# Altium footprint library JDLib.PcbLib: 23 footprints (part 1 of 2)
Each footprint in its own frame and in the unit in brackets; x right, y up, seen from the top. Pads: shape width x height; smd on the part's side, far side on the other; paste and mask are expansions set on the pad; w line width, h text height; cw(c..) or ccw(c..) is an arc to the next point about the centre after c.
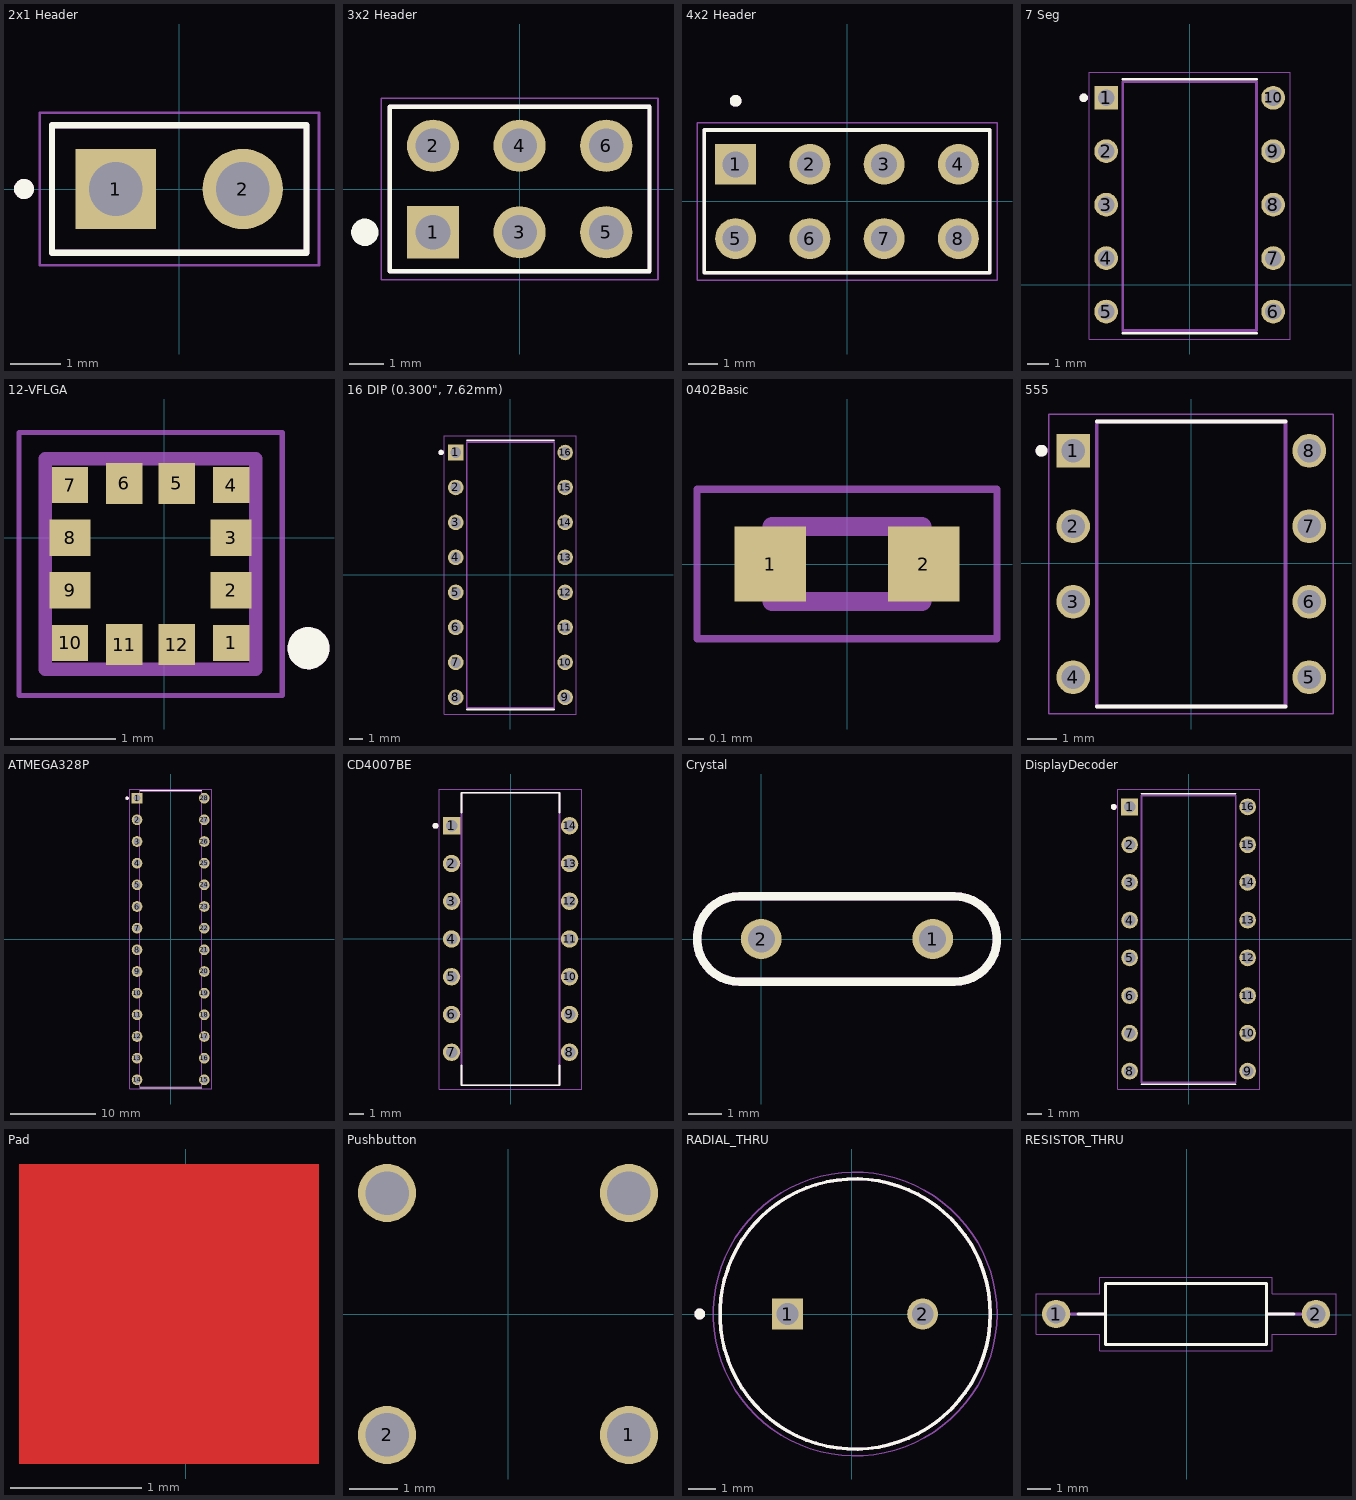
[diagram p0: the footprints below, top view; thin cyan lines are the x and y axes]

## 2x1 Header [mm]
pads (2):
  rect 1.605x1.605 / inner round 1.605 / far side rect 1.605x1.605 hole 1.07: 1(-1.27,0)
  round 1.605 hole 1.07: 2(1.27,0)
Top Overlay:
  circle w0.2: c-3.1,0 r0.1
  lines w0.127: -2.54,-1.27 -2.54,1.27 2.54,1.27 2.54,-1.27 -2.54,-1.27
Mechanical 13:
  circle w0.2: c-3.1,0 r0.1
  lines w0.127: -2.54,-1.27 -2.54,1.27 2.54,1.27 2.54,-1.27 -2.54,-1.27
Mechanical 15:
  lines w0.05: -2.79,-1.52 -2.79,1.52 2.79,1.52 2.79,-1.52 -2.79,-1.52

## 3x2 Header [mm]
pads (6):
  rect 1.53x1.53 hole 1.02: 1(-2.54,-1.27)
  round 1.53 hole 1.02: 2(-2.54,1.27) 3(0,-1.27) 4(0,1.27) 5(2.54,-1.27) 6(2.54,1.27)
Top Overlay:
  circle w0.4: c-4.54,-1.27 r0.2
  lines w0.127: -3.81,-2.415 3.81,-2.415 3.81,2.415 -3.81,2.415 -3.81,-2.415
Mechanical 13:
  circle w0.4: c-2.54,-1.27 r0.2
  lines w0.127: -3.81,-2.415 3.81,-2.415 3.81,2.415 -3.81,2.415 -3.81,-2.415
Mechanical 15:
  lines w0.05: -4.06,-2.665 -4.06,2.665 4.06,2.665 4.06,-2.665 -4.06,-2.665

## 4x2 Header [mm]
pads (8):
  rect 1.398x1.398 hole 0.89: 1(-3.81,1.27)
  round 1.398 hole 0.89: 2(-1.27,1.27) 3(1.27,1.27) 4(3.81,1.27) 5(-3.81,-1.27) 6(-1.27,-1.27) 7(1.27,-1.27) 8(3.81,-1.27)
Top Overlay:
  circle w0.2: c-3.81,3.44 r0.1
  lines w0.127: -4.88,-2.44 -4.88,2.44 4.88,2.44 4.88,-2.44 -4.88,-2.44
Mechanical 13:
  circle w0.2: c-3.81,3.44 r0.1
  lines w0.127: -4.88,-2.44 -4.88,2.44 4.88,2.44 4.88,-2.44 -4.88,-2.44
Mechanical 15:
  lines w0.05: -5.13,-2.69 -5.13,2.69 5.13,2.69 5.13,-2.69 -5.13,-2.69

## 7 Seg [mm]
pads (10):
  rect 1.13x1.13 hole 0.78: 1(-3.97,8.89)
  round 1.13 hole 0.78: 2(-3.97,6.35) 3(-3.97,3.81) 4(-3.97,1.27) 5(-3.97,-1.27) 6(3.97,-1.27) 7(3.97,1.27) 8(3.97,3.81) 9(3.97,6.35) 10(3.97,8.89)
Top Overlay:
  circle w0.2: c-5.035,8.89 r0.1
  lines w0.127: -3.175,-2.3 3.175,-2.3 ; -3.175,9.775 3.175,9.775
Mechanical 13:
  circle w0.2: c-5.035,8.89 r0.1
  lines w0.127: -3.175,-2.175 -3.175,9.653 3.175,9.653 3.175,-2.175 -3.175,-2.175
Mechanical 15:
  lines w0.05: -4.785,-2.575 -4.785,10.095 4.785,10.095 4.785,-2.575 -4.785,-2.575

## 12-VFLGA [mm]
pads (12):
  rect 0.345x0.345 smd: 1(0.635,-1) 4(0.635,0.5) 7(-0.895,0.5) 10(-0.895,-1)
  rect 0.39x0.345 smd: 2(0.635,-0.5) 3(0.635,0) 8(-0.895,0) 9(-0.895,-0.5)
  rect 0.345x0.39 smd: 5(0.12,0.515) 6(-0.38,0.515) 11(-0.38,-1.015) 12(0.12,-1.015)
Top Overlay:
  circle w0.2: c1.37,-1.05 r0.1
Mechanical 13:
  circle w0.2: c1.37,-1.05 r0.1
  lines w0.127: -1.13,-1.25 0.87,-1.25 0.87,0.75 -1.13,0.75 -1.13,-1.25
Mechanical 15:
  lines w0.05: -1.38,-1.5 1.12,-1.5 1.12,1 -1.38,1 -1.38,-1.5

## 16 DIP (0.300", 7.62mm) [mm]
pads (16):
  rect 1.13x1.13 hole 0.78: 1(-3.97,8.89)
  round 1.13 hole 0.78: 2(-3.97,6.35) 3(-3.97,3.81) 4(-3.97,1.27) 5(-3.97,-1.27) 6(-3.97,-3.81) 7(-3.97,-6.35) 8(-3.97,-8.89) 9(3.97,-8.89) 10(3.97,-6.35) 11(3.97,-3.81) 12(3.97,-1.27) 13(3.97,1.27) 14(3.97,3.81) 15(3.97,6.35) 16(3.97,8.89)
Top Overlay:
  circle w0.2: c-5.035,8.89 r0.1
  lines w0.127: -3.175,-9.775 3.175,-9.775 ; -3.175,9.775 3.175,9.775
Mechanical 13:
  circle w0.2: c-5.035,8.89 r0.1
  lines w0.127: -3.175,-9.653 3.175,-9.653 3.175,9.653 -3.175,9.653 -3.175,-9.653
Mechanical 15:
  lines w0.05: -4.785,-10.095 4.785,-10.095 4.785,10.095 -4.785,10.095 -4.785,-10.095

## 0402Basic [mm]
pads (2):
  rect 0.475x0.5 smd: 1(-0.512,0) 2(0.512,0)
Mechanical 13:
  lines w0.127: -0.5,-0.25 -0.5,0.25 0.5,0.25 0.5,-0.25 -0.5,-0.25
Mechanical 15:
  lines w0.05: -1,-0.5 -1,0.5 1,0.5 1,-0.5 -1,-0.5
3D body "step_temp.STEP": height 0.35, standoff 0, extent -0.5,-0.25 0.5,0.25

## 555 [mm]
pads (8):
  rect 1.13x1.13 hole 0.78: 1(-3.97,3.785)
  round 1.13 hole 0.78: 2(-3.97,1.245) 3(-3.97,-1.295) 4(-3.97,-3.835) 5(3.97,-3.835) 6(3.97,-1.295) 7(3.97,1.245) 8(3.97,3.785)
Top Overlay:
  circle w0.2: c-5.035,3.785 r0.1
  lines w0.127: -3.175,-4.82 3.175,-4.82 ; -3.175,4.77 3.175,4.77
Mechanical 13:
  circle w0.2: c-5.035,3.785 r0.1
  lines w0.127: -3.175,-4.82 -3.175,4.77 3.175,4.77 3.175,-4.82 -3.175,-4.82
Mechanical 15:
  lines w0.05: -4.785,-5.07 -4.785,5.02 4.785,5.02 4.785,-5.07 -4.785,-5.07

## ATMEGA328P [mm]
pads (28):
  rect 1.25x1.25 / inner round 1.25 / far side rect 1.25x1.25 hole 0.83: 1(-3.937,16.51)
  round 1.25 hole 0.83: 2(-3.937,13.97) 3(-3.937,11.43) 4(-3.937,8.89) 5(-3.937,6.35) 6(-3.937,3.81) 7(-3.937,1.27) 8(-3.937,-1.27) 9(-3.937,-3.81) 10(-3.937,-6.35) 11(-3.937,-8.89) 12(-3.937,-11.43) 13(-3.937,-13.97) 14(-3.937,-16.51) 15(3.937,-16.51) 16(3.937,-13.97) 17(3.937,-11.43) 18(3.937,-8.89) 19(3.937,-6.35) 20(3.937,-3.81) 21(3.937,-1.27) 22(3.937,1.27) 23(3.937,3.81) 24(3.937,6.35) 25(3.937,8.89) 26(3.937,11.43) 27(3.937,13.97) 28(3.937,16.51)
Top Overlay:
  circle w0.2: c-5.1,16.51 r0.1
  lines w0.127: -3.619,-17.455 3.619,-17.455 ; -3.619,17.455 3.619,17.455
Mechanical 13:
  circle w0.2: c-5.1,16.51 r0.1
  lines w0.127: -3.619,-17.335 -3.619,17.335 3.619,17.335 3.619,-17.335 -3.619,-17.335
Mechanical 15:
  lines w0.05: -4.812,-17.585 -4.812,17.585 4.812,17.585 4.812,-17.585 -4.812,-17.585
3D body "step_temp.STEP": height 4.57, standoff -3.43, extent -3.95,-17.335 3.95,17.335

## CD4007BE [mm]
pads (14):
  rect 1.17x1.17 hole 0.77: 1(-3.97,7.595)
  round 1.17 hole 0.77: 2(-3.97,5.055) 3(-3.97,2.515) 4(-3.97,-0.025) 5(-3.97,-2.565) 6(-3.97,-5.105) 7(-3.97,-7.645) 8(3.97,-7.645) 9(3.97,-5.105) 10(3.97,-2.565) 11(3.97,-0.025) 12(3.97,2.515) 13(3.97,5.055) 14(3.97,7.595)
Top Overlay:
  circle w0.2: c-5.055,7.595 r0.1
  lines w0.127: -3.3,-8.55 -3.3,-9.87 3.3,-9.87 3.3,-8.55 ; -3.3,8.5 -3.3,9.82 3.3,9.82 3.3,8.5
Mechanical 13:
  circle w0.2: c-5.055,7.595 r0.1
  lines w0.127: -3.3,-9.87 3.3,-9.87 3.3,9.82 -3.3,9.82 -3.3,-9.87
Mechanical 15:
  lines w0.05: -4.805,-10.12 4.805,-10.12 4.805,10.07 -4.805,10.07 -4.805,-10.12

## Crystal [mm]
pads (2):
  round 1.2 hole 0.8: 1(5.08,0) 2(0,0)
Top Overlay:
  lines w0.254: -0.635,-1.27 cw(c-0.635,0) -0.635,1.27 0,1.27 5.08,1.27 5.715,1.27 cw(c5.715,0) 5.715,-1.27 5.08,-1.27 0,-1.27 -0.635,-1.27
Mechanical 1:
  lines w0.254: -0.635,-1.27 cw(c-0.635,0) -0.635,1.27 0,1.27 5.08,1.27 5.715,1.27 cw(c5.715,0) 5.715,-1.27 5.08,-1.27 0,-1.27 -0.635,-1.27

## DisplayDecoder [mm]
pads (16):
  rect 1.13x1.13 / inner round 1.13 / far side rect 1.13x1.13 hole 0.78: 1(-3.97,8.89)
  round 1.13 hole 0.78: 2(-3.97,6.35) 3(-3.97,3.81) 4(-3.97,1.27) 5(-3.97,-1.27) 6(-3.97,-3.81) 7(-3.97,-6.35) 8(-3.97,-8.89) 9(3.97,-8.89) 10(3.97,-6.35) 11(3.97,-3.81) 12(3.97,-1.27) 13(3.97,1.27) 14(3.97,3.81) 15(3.97,6.35) 16(3.97,8.89)
Top Overlay:
  circle w0.2: c-5.035,8.89 r0.1
  lines w0.127: -3.175,-9.775 3.175,-9.775 ; -3.175,9.775 3.175,9.775
Mechanical 13:
  circle w0.2: c-5.035,8.89 r0.1
  lines w0.127: -3.175,-9.653 3.175,-9.653 3.175,9.653 -3.175,9.653 -3.175,-9.653
Mechanical 15:
  lines w0.05: -4.785,-10.095 4.785,-10.095 4.785,10.095 -4.785,10.095 -4.785,-10.095
3D body "step_temp.STEP": height 5.08, standoff -3.3, extent -3.95,-10.67 3.95,10.67

## Pad [mm]
Top Layer:
  rectangle: -1.27,0.127 1.016,2.413

## Pushbutton [mm]
pads (4):
  round 1.2 hole 0.9: 1(2.5,-2.5) 2(-2.5,-2.5) ""(-2.5,2.5) ""(2.5,2.5)

## RADIAL_THRU [mm]
pads (2):
  rect 1.15x1.15 hole 0.8: 1(-2.373,0)
  round 1.15 hole 0.8: 2(2.627,0)
Top Overlay:
  circle w0.127: c0.127,0 r5
  circle w0.2: c-5.623,0 r0.1
Mechanical 13:
  circle w0.127: c0.127,0 r5
  circle w0.2: c-5.623,0 r0.1
Mechanical 15:
  circle w0.05: c0.127,0 r5.25

## RESISTOR_THRU [mm]
pads (2):
  round 1.2 hole 0.8: 1(-5.525,0.025) 2(5.475,0.025)
Top Overlay:
  lines w0.127: -4.605,0.025 -3.425,0.025 ; 4.555,0.025 3.375,0.025 ; -3.425,0.025 -3.425,1.325 3.375,1.325 3.375,0.025 ; -3.425,0.025 -3.425,-1.275 3.375,-1.275 3.375,0.025
Mechanical 13:
  lines w0.127: -4.925,0.025 -3.425,0.025 ; 4.875,0.025 3.375,0.025 ; -3.425,0.025 -3.425,1.325 3.375,1.325 3.375,0.025 ; -3.425,0.025 -3.425,-1.275 3.375,-1.275 3.375,0.025
Mechanical 15:
  lines w0.05: -6.375,-0.825 -3.675,-0.825 -3.675,-1.525 3.625,-1.525 3.625,-0.825 6.325,-0.825 6.325,0.875 3.625,0.875 3.625,1.575 -3.675,1.575 -3.675,0.875 -6.375,0.875 -6.375,-0.825